# EAGLE library part DIP40-BOARD (library Xilinx)
40 pin dip socket for use with dip module boards (ie. Cool2)
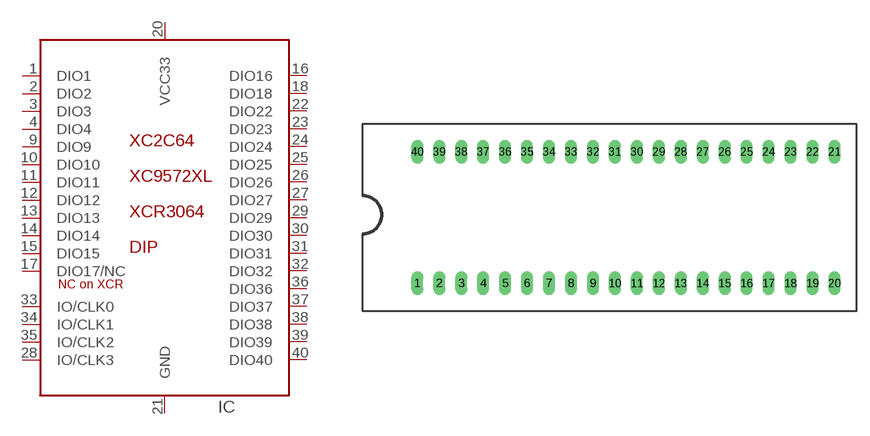
[diagram p30: symbol with the pads of DIP40-BOARD; footprint DIP40-BOARD]

Designator prefix IC

## DIP40-BOARD  [DIP40-BOARD]
1  DIO1
2  DIO2
3  DIO3
4  DIO4
9  DIO9
10  DIO10
11  DIO11
12  DIO12
13  DIO13
14  DIO14
15  DIO15
16  DIO16
17  DIO17/NC
18  DIO18
20  VCC33
21  GND
22  DIO22
23  DIO23
24  DIO24
25  DIO25
26  DIO26
27  DIO27
28  IO/CLK3
29  DIO29
30  DIO30
31  DIO31
32  DIO32
33  IO/CLK0
34  IO/CLK1
35  IO/CLK2
36  DIO36
37  DIO37
38  DIO38
39  DIO39
40  DIO40

## Footprint DIP40-BOARD (pad centres in mm)
40 pin dip, with special constraints for dip modules (ie. Cool2)
drill 0.889 long: 1 -24.13,-7.62; 2 -21.59,-7.62; 3 -19.05,-7.62; 4 -16.51,-7.62; 5 -13.97,-7.62; 6 -11.43,-7.62; 7 -8.89,-7.62; 8 -6.35,-7.62; 9 -3.81,-7.62; 10 -1.27,-7.62; 11 1.27,-7.62; 12 3.81,-7.62; 13 6.35,-7.62; 14 8.89,-7.62; 15 11.43,-7.62; 16 13.97,-7.62; 17 16.51,-7.62; 18 19.05,-7.62; 19 21.59,-7.62; 20 24.13,-7.62; 21 24.13,7.62; 22 21.59,7.62; 23 19.05,7.62; 24 16.51,7.62; 25 13.97,7.62; 26 11.43,7.62; 27 8.89,7.62; 28 6.35,7.62; 29 3.81,7.62; 30 1.27,7.62; 31 -1.27,7.62; 32 -3.81,7.62; 33 -6.35,7.62; 34 -8.89,7.62; 35 -11.43,7.62; 36 -13.97,7.62; 37 -16.51,7.62; 38 -19.05,7.62; 39 -21.59,7.62; 40 -24.13,7.62